# Altium schematic symbol library pcie_connectors.SchLib: 2 symbols
Pins are listed as number, name and electrical type; pins without a type are passive.

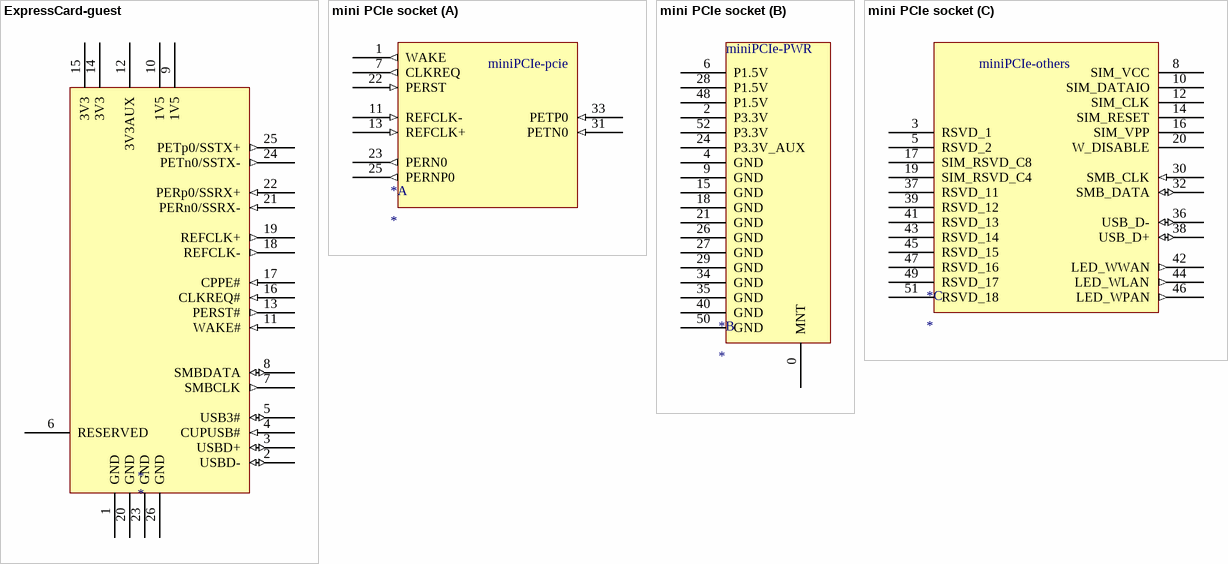
[diagram p0: symbols ExpressCard-guest to mini PCIe socket]

## ExpressCard-guest
designator *
footprint ExpressCard-guest
pins: 1 GND (power), 2 USBD- (io), 3 USBD+ (io), 4 CUPUSB# (in), 5 USB3# (io), 6 RESERVED, 7 SMBCLK (out), 8 SMBDATA (io), 9 1V5 (power), 10 1V5, 11 WAKE# (in), 12 3V3AUX (power), 13 PERST# (out), 14 3V3 (power), 15 3V3 (power), 16 CLKREQ# (in), 17 CPPE# (in), 18 REFCLK- (out), 19 REFCLK+ (out), 20 GND (power), 21 PERn0/SSRX- (in), 22 PERp0/SSRX+ (in), 23 GND (power), 24 PETn0/SSTX- (out), 25 PETp0/SSTX+ (out), 26 GND (power)

## mini PCIe socket
designator *
footprint miniPCIe socket
part A pins: 1 WAKE (out), 7 CLKREQ (out), 11 REFCLK- (in), 13 REFCLK+ (in), 22 PERST (in), 23 PERN0 (out), 25 PERNP0 (out), 31 PETN0 (in), 33 PETP0 (in)
part B pins: 0 MNT, 2 P3.3V (power), 4 GND (power), 6 P1.5V (power), 9 GND (power), 15 GND (power), 18 GND (power), 21 GND (power), 24 P3.3V_AUX (power), 26 GND (power), 27 GND (power), 28 P1.5V, 29 GND (power), 34 GND (power), 35 GND (power), 40 GND (power), 48 P1.5V (power), 50 GND (power), 52 P3.3V (power)
part C pins: 3 RSVD_1, 5 RSVD_2, 8 SIM_VCC (power), 10 SIM_DATAIO, 12 SIM_CLK, 14 SIM_RESET, 16 SIM_VPP, 17 SIM_RSVD_C8, 19 SIM_RSVD_C4, 20 W_DISABLE, 30 SMB_CLK (in), 32 SMB_DATA (io), 36 USB_D- (io), 37 RSVD_11, 38 USB_D+ (io), 39 RSVD_12, 41 RSVD_13, 42 LED_WWAN (out), 43 RSVD_14, 44 LED_WLAN (out), 45 RSVD_15, 46 LED_WPAN (out), 47 RSVD_16, 49 RSVD_17, 51 RSVD_18
part A text: miniPCIe-pcie
part B text: miniPCIe-PWR
part C text: miniPCIe-others